# Altium footprint library DIODE.PCBLIB: 59 footprints (part 3 of 4)
Each footprint in its own frame and in the unit in brackets; x right, y up, seen from the top. Pads: shape width x height; smd on the part's side, far side on the other; paste and mask are expansions set on the pad; w line width, h text height; cw(c..) or ccw(c..) is an arc to the next point about the centre after c.
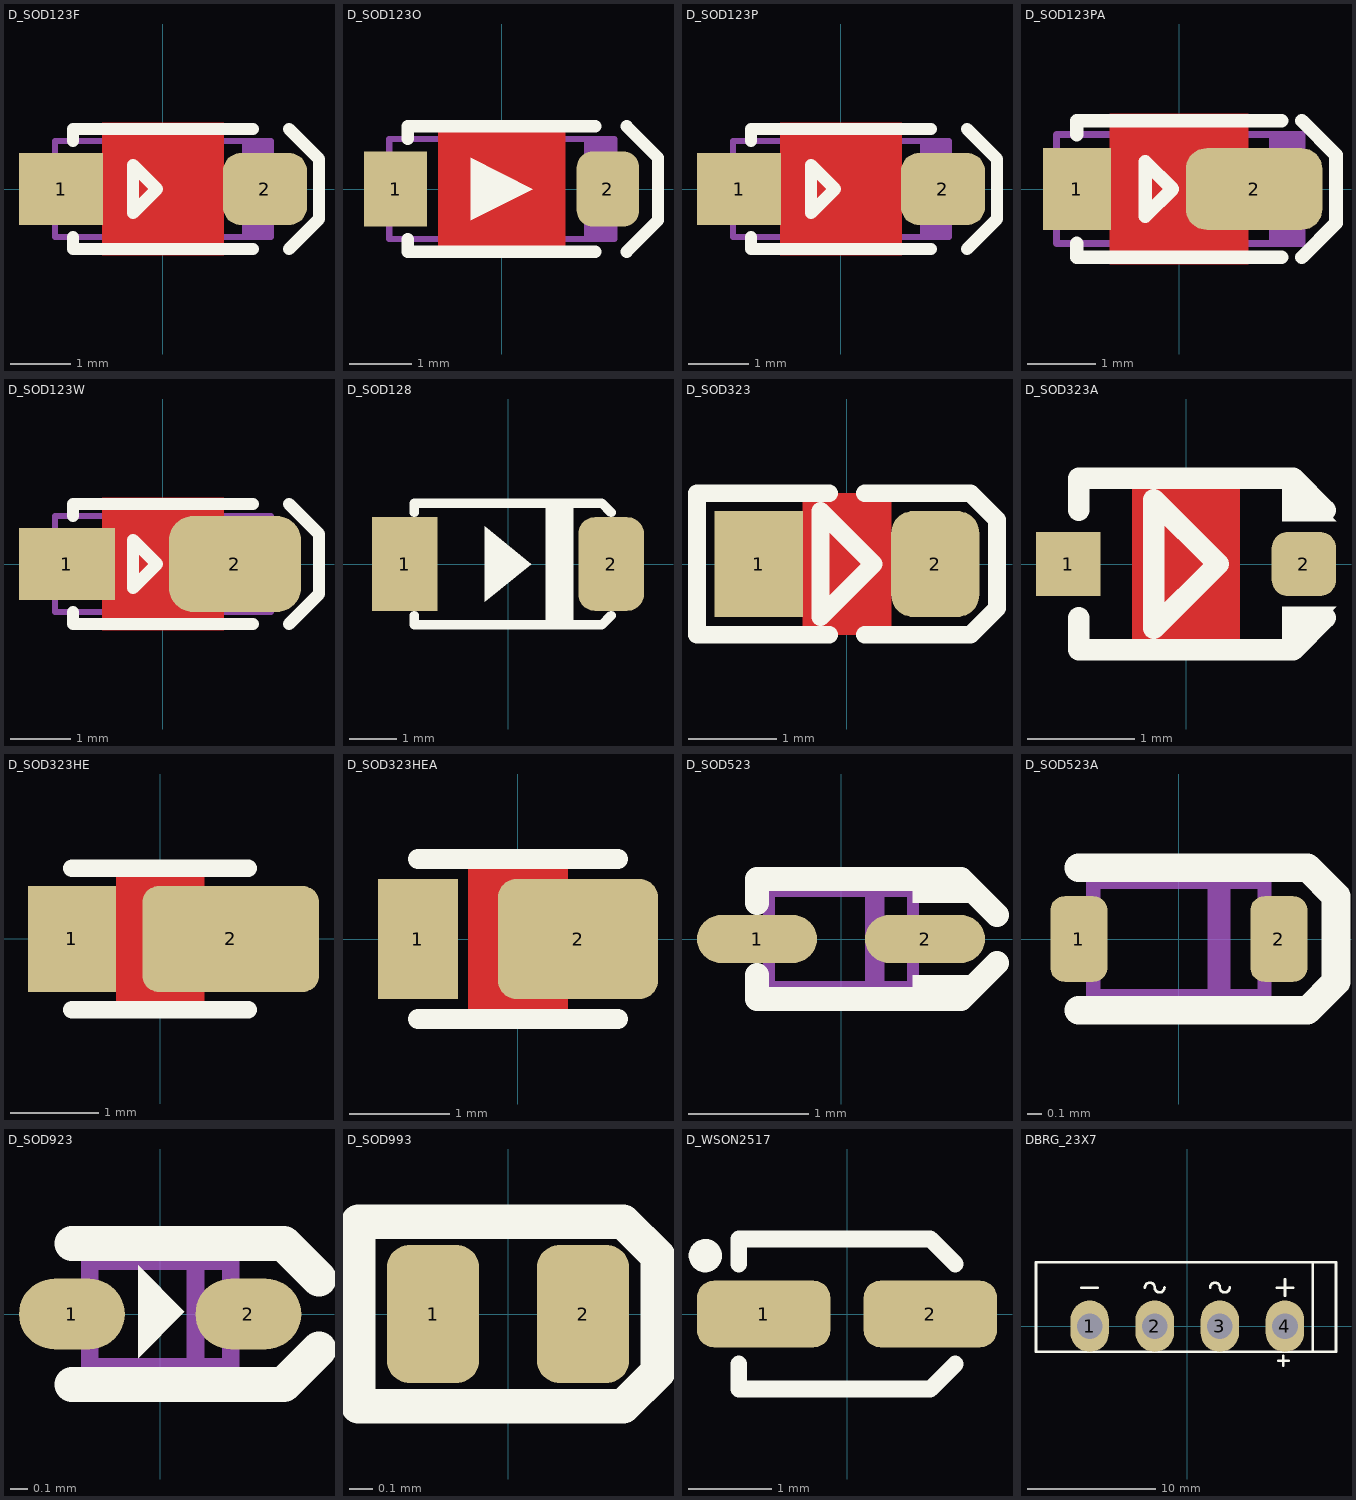
[diagram p2: the footprints below, top view; thin cyan lines are the x and y axes]

## D_SOD123F [mm] "SOD123, 1206D"
pads (2):
  rect 1.4x1.2 smd paste-0.1 mask+0.1: 1(-1.7,0)
  rrect50% 1.4x1.2 smd paste-0.1 mask+0.1: 2(1.7,0)
Top Layer:
  pour cut-out: -1.016,1.1 -1.016,-1.1 1.016,-1.1 1.016,1.1
Top Overlay:
  lines w0.2: -1.5,-0.8 -1.5,-1 1.5,-1 ; -1.5,0.8 -1.5,1 1.5,1 ; 2.1,-1 2.6,-0.5 2.6,0.5 2.1,1 ; -0.5,-0.4 -0.1,0 -0.5,0.4 -0.5,-0.4
Mechanical 13:
  rectangle: 1.316,-0.8 1.8,0.8
  lines w0.1: -1.8,-0.8 -1.8,0.8 1.8,0.8 1.8,-0.8 -1.8,-0.8
3D body "User Library-SOD123F.step": height 1.2, standoff -0.01, extent -1.85,-0.85 1.9,0.85

## D_SOD123O [mm] "SOD123, 1206D pad size Optimized"
pads (2):
  rect 1x1.2 smd paste-0.1 mask+0.1: 1(-1.7,0)
  rrect50% 1x1.2 smd paste-0.1 mask+0.1: 2(1.7,0)
Top Layer:
  pour cut-out: -1.016,1.1 -1.016,-1.1 1.016,-1.1 1.016,1.1
Top Overlay:
  region: -0.5,0.5 0.5,0 -0.5,-0.5
  lines w0.2: -1.5,-0.8 -1.5,-1 1.5,-1 ; -1.5,0.8 -1.5,1 1.5,1 ; 2,-1 2.5,-0.5 2.5,0.5 2,1
Mechanical 13:
  rectangle: 1.316,-0.8 1.8,0.8
  lines w0.1: -1.8,-0.8 -1.8,0.8 1.8,0.8 1.8,-0.8 -1.8,-0.8
3D body "User Library-POWERDI-123.STEP": height 1, standoff 0, extent -1.95,-0.965 1.95,0.965

## D_SOD123P [mm] "POWERDI-123, SOD123, SOD123F, 1206D,"
pads (2):
  rect 1.4x1.2 smd paste-0.1 mask+0.1: 1(-1.7,0)
  rrect50% 1.4x1.2 smd paste-0.1 mask+0.1: 2(1.7,0)
Top Layer:
  pour cut-out: -1.016,1.1 -1.016,-1.1 1.016,-1.1 1.016,1.1
Top Overlay:
  lines w0.2: -1.5,-0.8 -1.5,-1 1.5,-1 ; -1.5,0.8 -1.5,1 1.5,1 ; 2.1,-1 2.6,-0.5 2.6,0.5 2.1,1 ; -0.5,-0.4 -0.5,0.4 -0.1,0 -0.5,-0.4
Mechanical 13:
  rectangle: 1.316,-0.8 1.8,0.8
  lines w0.1: -1.8,-0.8 1.8,-0.8 1.8,0.8 -1.8,0.8 -1.8,-0.8
3D body "User Library-POWERDI-123.STEP": height 1, standoff 0, extent -1.95,-0.965 1.95,0.965

## D_SOD123PA [mm] "PowerDI-123, SOD123, DO-213AA, 1206D"
pads (2):
  rect 1x1.2 smd paste-0.1 mask+0.1: 1(-1.5,0)
  rrect50% 2x1.2 smd paste-0.1 mask+0.1: 2(1.1,0)
Top Layer:
  pour cut-out: -1.016,1.1 -1.016,-1.1 1.016,-1.1 1.016,1.1
Top Overlay:
  lines w0.2: -1.5,-0.8 -1.5,-1 1.5,-1 ; -1.5,0.8 -1.5,1 1.5,1 ; 1.8,-1 2.3,-0.5 2.3,0.5 1.8,1 ; -0.5,-0.4 -0.5,0.4 -0.1,0 -0.5,-0.4
Mechanical 13:
  rectangle: 1.316,-0.8 1.8,0.8
  lines w0.1: -1.8,-0.8 1.8,-0.8 1.8,0.8 -1.8,0.8 -1.8,-0.8
3D body "User Library-POWERDI-123.STEP": height 1, standoff 0, extent -1.95,-0.965 1.95,0.965

## D_SOD123W [mm] "PowerDI-123, SOD123, DO-213AA, 1206D"
pads (2):
  rect 1.6x1.2 smd paste-0.1 mask+0.1: 1(-1.6,0)
  rrect50% 2.2x1.6 smd paste-0.1 mask+0.1: 2(1.2,0)
Top Layer:
  pour cut-out: -1.016,1.1 -1.016,-1.1 1.016,-1.1 1.016,1.1
Top Overlay:
  lines w0.2: -1.5,-0.8 -1.5,-1 1.5,-1 ; -1.5,0.8 -1.5,1 1.5,1 ; 2.1,-1 2.6,-0.5 2.6,0.5 2.1,1 ; -0.5,-0.4 -0.5,0.4 -0.1,0 -0.5,-0.4
Mechanical 13:
  rectangle: 1.316,-0.8 1.8,0.8
  lines w0.1: -1.8,-0.8 1.8,-0.8 1.8,0.8 -1.8,0.8 -1.8,-0.8
3D body "User Library-POWERDI-123.STEP": height 1, standoff 0, extent -1.95,-0.965 1.95,0.965

## D_SOD128 [mm] "SOD-128, SOD128, CFP5, 3.8x2.6x1mm"
height 1
pads (2):
  rect 1.4x2 smd paste-2: 1(-2.2,0)
  rrect50% 1.4x2 smd paste-2: 2(2.2,0)
Top Overlay:
  rectangle: 0.8,-1.3 1.4,1.3
  region: 0.5,0 -0.5,0.8 -0.5,-0.8
  lines w0.2: -2,-1.1 -2,-1.3 2,-1.3 2.2,-1.1 ; -2,1.1 -2,1.3 2,1.3 2.2,1.1
Top Paste:
  rectangle: -2.6,-0.9 -1.8,0.9
  region: 2.6,0.9 1.8,0.9 1.8,-0.9 2.6,-0.9
3D body "User Library-SOD-128Flat.step": height 1.02, standoff 0, extent -2.4,-1.25 2.4,1.25

## D_SOD323 [mm] "DIODE0805, SOD-323, SC-76, DL-35, 0805 similar size"
height 1.4
pads (2):
  rect 1x1.2 smd paste-2 mask+0.075: 1(-1,0)
  rrect50% 1x1.2 smd paste-2 mask+0.075: 2(1,0)
Top Layer:
  pour cut-out: -0.5,0.8 0.5,0.8 0.5,-0.8 -0.5,-0.8
Top Overlay:
  lines w0.2: -0.2,-0.8 -1.7,-0.8 -1.7,0.8 -0.2,0.8 ; 0.2,-0.8 1.4,-0.8 1.7,-0.5 1.7,0.5 1.4,0.8 0.2,0.8 ; -0.3,-0.6 -0.3,0.6 0.3,0 -0.3,-0.6
Top Paste:
  region: 0.9,0.5 0.82,0.5 0.673,0.439 0.561,0.327 0.5,0.18 0.5,0.1 0.5,-0.1 0.5,-0.18 0.561,-0.327 0.673,-0.439 0.82,-0.5 0.9,-0.5 1.15,-0.5 1.18,-0.5 1.235,-0.477 1.277,-0.435 1.3,-0.38 1.3,-0.35 1.3,0.35 1.3,0.38 1.277,0.435 1.235,0.477 1.18,0.5 1.15,0.5
  region: -0.9,0.5 -0.82,0.5 -0.673,0.439 -0.561,0.327 -0.5,0.18 -0.5,0.1 -0.5,-0.1 -0.5,-0.18 -0.561,-0.327 -0.673,-0.439 -0.82,-0.5 -0.9,-0.5 -1.15,-0.5 -1.18,-0.5 -1.235,-0.477 -1.277,-0.435 -1.3,-0.38 -1.3,-0.35 -1.3,0.35 -1.3,0.38 -1.277,0.435 -1.235,0.477 -1.18,0.5 -1.15,0.5
3D body "SOD323F.STEP": height 1, standoff 0, extent -1.25,-0.675 1.25,0.675

## D_SOD323A [mm] "DIODE0805, SOD323 (PHILIPS), SC-76 (JEITA), DL-35"
height 1.4
pads (2):
  rect 0.6x0.6 smd mask+0.075: 1(-1.1,0)
  rrect50% 0.6x0.6 smd mask+0.075: 2(1.1,0)
Top Layer:
  pour cut-out: -0.5,0.8 0.5,0.8 0.5,-0.8 -0.5,-0.8
Top Overlay:
  region: 1.4,0.4 0.9,0.4 0.9,0.8 1,0.8
  region: 1.4,-0.4 0.9,-0.4 0.9,-0.8 1,-0.8
  lines w0.2: -1,-0.5 -1,-0.8 1,-0.8 1.3,-0.5 ; -1,0.5 -1,0.8 1,0.8 1.3,0.5 ; -0.3,-0.6 0.3,0 -0.3,0.6 -0.3,-0.6
3D body "SOD323F.STEP": height 1, standoff 0, extent -1.25,-0.675 1.25,0.675

## D_SOD323HE [mm] "MicroSMP DO-219AD, DIODE0805, SOD-323"
height 0.8
pads (2):
  rect 1x1.2 smd paste-0.1 mask+0.075: 1(-1,0)
  rrect30% 2x1.2 smd paste-0.2 mask+0.075: 2(0.8,0)
Top Layer:
  pour cut-out: -0.5,0.8 0.5,0.8 0.5,-0.8 -0.5,-0.8
Top Overlay:
  lines w0.2: -1,-0.8 1,-0.8 ; -1,0.8 1,0.8
3D body "User Library-SOD-323HE.step": height 0.78, standoff 0, extent -1.35,-0.7 1.35,0.7

## D_SOD323HEA [mm] "DIODE0805, SOD-323"
height 0.8
pads (2):
  rect 0.8x1.2 smd paste-0.1 mask+0.075: 1(-1,0)
  rrect30% 1.6x1.2 smd paste-0.1 mask+0.075: 2(0.6,0)
Top Layer:
  pour cut-out: -0.5,0.8 0.5,0.8 0.5,-0.8 -0.5,-0.8
Top Overlay:
  lines w0.2: -1,-0.8 1,-0.8 ; -1,0.8 1,0.8
3D body "User Library-SOD-323HE.step": height 0.78, standoff 0, extent -1.35,-0.7 1.35,0.7

## D_SOD523 [mm] "SOD523 SC-79 Molded Diode, 2-Leads, 1.2x0.8mm"
height 0.7
pads (2):
  oval 1x0.4 smd paste-2 mask+0.075: 1(-0.7,0) 2(0.7,0)
Top Overlay:
  region: 0.6,0.5 0.6,0.3 1.2,0.3 1,0.5
  region: 0.6,-0.5 0.6,-0.3 1.2,-0.3 1,-0.5
  lines w0.2: -0.7,-0.3 -0.7,-0.5 1,-0.5 1.3,-0.2 ; -0.7,0.3 -0.7,0.5 1,0.5 1.3,0.2
Top Paste:
  region: 0.9,0.15 0.5,0.15 0.5,-0.15 0.9,-0.15
  rectangle: -0.9,-0.15 -0.5,0.15
Mechanical 13:
  rectangle: 0.2,-0.4 0.361,0.4
  lines w0.1: -0.6,-0.4 -0.6,0.4 0.6,0.4 0.6,-0.4 -0.6,-0.4
3D body "User Library-SOD-523F.step": height 0.7, standoff 0, extent -0.8,-0.399 0.8,0.399

## D_SOD523A [mm] "SOD523 SC-79 Molded Diode, 2-Leads, 1.2x0.8mm"
height 0.7
pads (2):
  rrect50% 0.4x0.6 smd paste-0.05 mask+0.075: 1(-0.7,0) 2(0.7,0)
Top Overlay:
  lines w0.2: -0.7,-0.5 0.9,-0.5 1.1,-0.3 1.1,0.3 0.9,0.5 -0.7,0.5
Mechanical 13:
  rectangle: 0.2,-0.4 0.361,0.4
  lines w0.1: -0.6,-0.4 -0.6,0.4 0.6,0.4 0.6,-0.4 -0.6,-0.4
3D body "User Library-SOD-523F.step": height 0.7, standoff 0, extent -0.8,-0.399 0.8,0.399

## D_SOD923 [mm] "SOD-923 2-Leads, Body 0.60x.8mm"
height 0.4
pads (2):
  oval 0.6x0.4 smd paste-0.05 mask+0.075: 1(-0.5,0) 2(0.5,0)
Top Overlay:
  region: -0.125,0.275 -0.125,-0.25 0.138,0.013
  lines w0.2: -0.5,-0.4 0.7,-0.4 0.9,-0.2 ; -0.5,0.4 0.7,0.4 0.9,0.2
Mechanical 13:
  lines w0.1: 0.2,-0.3 0.2,0.3 ; -0.4,-0.3 -0.4,0.3 0.4,0.3 0.4,-0.3 -0.4,-0.3
3D body "User Library-DIODE_SOD-923.step": height 0.43, standoff 0, extent -0.525,-0.325 0.525,0.325

## D_SOD993 [mm] "X2-DSN1006-2, SOD993, 1X0.6X0.3mm"
height 0.3
pads (2):
  rrect50% 0.4x0.6 smd paste-0.05 mask+0.05: 1(-0.325,0) 2(0.325,0)
Top Overlay:
  lines w0.15: -0.65,-0.4 0.5,-0.4 0.65,-0.25 0.65,0.25 0.5,0.4 -0.65,0.4 -0.65,-0.4
3D body "User Library-DSN1006-2.step": height 0.47, standoff -0.03, extent -0.5,-0.3 0.5,0.3

## D_WSON2517 [mm] "WSON, DQX 2.5X1.7mm"
height 0.8
pads (2):
  rrect50% 1.6x0.8 smd paste-0.05 mask+0.075: 1(-1,0) 2(1,0)
Top Overlay:
  circle w0.2: c-1.7,0.7 r0.1
  lines w0.2: -1.3,-0.6 -1.3,-0.9 1,-0.9 1.3,-0.6 ; -1.3,0.6 -1.3,0.9 1,0.9 1.3,0.6
3D body: height 0.8, standoff 0.01, extent -1.25,-0.85 1.25,0.85
3D body: height 0.2, standoff 0, extent -1.265,0.1 -0.25,0.4
3D body: height 0.2, standoff 0, extent -1.265,-0.4 -0.25,-0.1
3D body: height 0.1, standoff 0, extent -1.1,-0.1 -0.25,0.1
3D body: height 0.1, standoff 0, extent 0.25,-0.1 1.1,0.1
3D body: height 0.2, standoff 0, extent 0.25,-0.4 1.265,-0.1
3D body: height 0.2, standoff 0, extent 0.25,0.1 1.265,0.4

## DBRG_23X7 [mm] "BRDIGE RECTIFIER, KBU 810 pitch: 5.08mm, 23X7X19mm"
height 19
pads (4):
  oval 3x4 hole 2: 1(-7.62,0) 2(-2.54,0) 3(2.54,0) 4(7.62,0)
Top Overlay:
  lines w0.2: -8.255,3.009 -6.985,3.009 ; -3.302,3.015 cw(c-2.921,3.015) -2.54,3.015 ccw(c-2.159,3.015) -1.778,3.015 ; 1.778,3.015 cw(c2.159,3.015) 2.54,3.015 ccw(c2.921,3.015) 3.302,3.015 ; 6.985,3.009 8.255,3.009 ; 7.1,-2.7 7.9,-2.7 ; 7.5,-3.1 7.5,-2.3 ; 7.62,2.374 7.62,3.644 ; 9.8,-2 9.8,5 ; -11.8,-2 11.6,-2 11.6,5 -11.8,5 -11.8,-2
3D body "KBU8M.STEP": height 19.3, standoff -4, extent -11.7,-1.91 11.5,4.95